# EAGLE library part MAX30* (library maxim-30xx)
+1.2V to +5.5V, ±15kV ESD-Protected, 0.1?A, 35Mbps, 8-Channel Level Translators
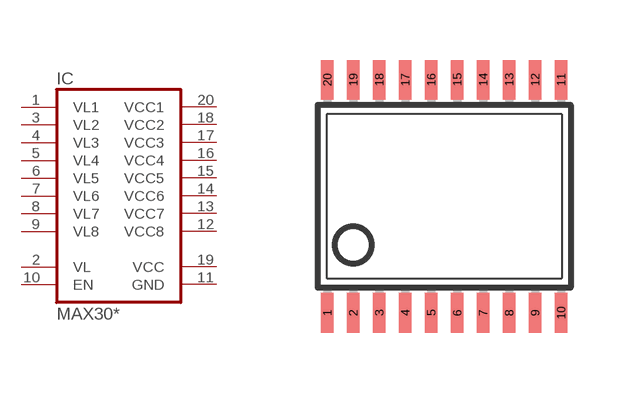
[diagram p0: symbol with the pads of TSSOP20; footprint TSSOP20]

Designator prefix IC

## MAX3000, MAX3001, MAX3002, MAX3003, MAX3004, MAX3005, MAX3006, MAX3007, MAX3008, MAX3009, MAX3010, MAX3011, MAX3012  [TSSOP20]
1  VL1
2  VL  in
3  VL2
4  VL3
5  VL4
6  VL5
7  VL6
8  VL7
9  VL8
10  EN  pwr
11  GND  pwr
12  VCC8
13  VCC7
14  VCC6
15  VCC5
16  VCC4
17  VCC3
18  VCC2
19  VCC  pwr
20  VCC1

## Footprint TSSOP20 (pad centres in mm)
Thin Shrink Small Outline Plastic 20 MAX3000-MAX3012.pdf
smd 0.305 x 0.991: 1 -2.925,-2.918; 2 -2.275,-2.918; 3 -1.625,-2.918; 4 -0.975,-2.918; 5 -0.325,-2.918; 6 0.325,-2.918; 7 0.975,-2.918; 8 1.625,-2.918; 9 2.275,-2.918; 10 2.925,-2.918; 11 2.925,2.918; 12 2.275,2.918; 13 1.625,2.918; 14 0.975,2.918; 15 0.325,2.918; 16 -0.325,2.918; 17 -0.975,2.918; 18 -1.625,2.918; 19 -2.275,2.918; 20 -2.925,2.918